# Altium footprint library Game Boy.PCBLIB: 21 footprints (part 2 of 2)
Each footprint in its own frame and in the unit in brackets; x right, y up, seen from the top. Pads: shape width x height; smd on the part's side, far side on the other; paste and mask are expansions set on the pad; w line width, h text height; cw(c..) or ccw(c..) is an arc to the next point about the centre after c.
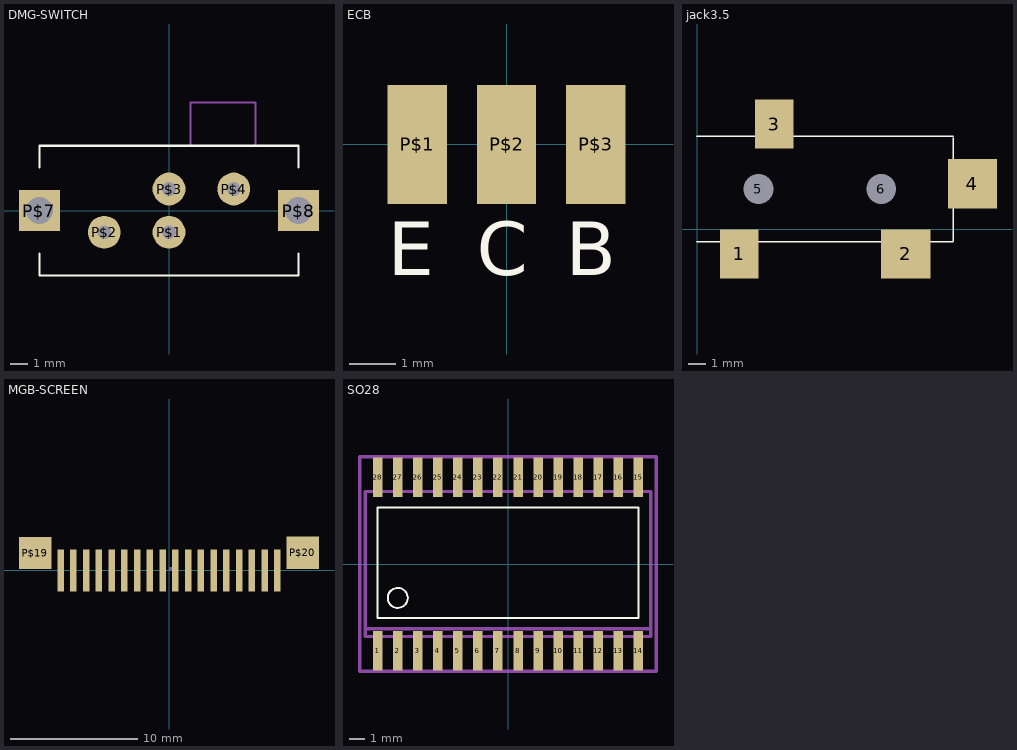
[diagram p1: the footprints below, top view; thin cyan lines are the x and y axes]

## DMG-SWITCH [mil]
pads (6):
  round 76 hole 31.5: P$1(0,-50) P$2(-150,-50) P$3(0,50) P$4(150,50)
  rect 94.48x94.48 hole 62.99: P$7(-300,0) P$8(300,0)
Top Overlay:
  lines w5: -300,-100 -300,-150 300,-150 300,-100 ; -300,100 -300,150 300,150 300,100
Mechanical 16:
  lines w5: 50,150 50,250 200,250 200,150

## ECB [mil]
pads (3):
  rect 50x100 smd: P$1(-75,0) P$2(0,0) P$3(75,0)
Top Overlay:
  text "E" at -100,-125 h77.5
  text "C" at -25,-125 h77.5
  text "B" at 50,-125 h77.5

## jack3.5 [mm]
pads (6):
  rect 2.2x2.8 smd: 1(2.4,-1.4) 3(4.4,6)
  rect 2.8x2.8 smd: 2(11.9,-1.4) 4(15.7,2.6)
  round 1 hole 1.7: 5(3.5,2.3)
  rect 1x1 hole 1.7: 6(10.5,2.3)
Top Overlay:
  lines w0.1: 0,-0.7 14.605,-0.7 ; 0,5.3 14.605,5.3 ; 14.605,-0.635 14.605,5.207

## MGB-SCREEN [mil]
pads (20):
  rect 20x130 smd: P$1(334.65,0) P$2(295.28,0) P$3(255.91,0) P$4(216.54,0) P$5(177.17,0) P$6(137.8,0) P$7(98.43,0) P$8(59.06,0) P$9(19.69,0) P$10(-19.69,0) P$11(-59.06,0) P$12(-98.43,0) P$13(-137.8,0) P$14(-177.17,0) P$15(-216.54,0) P$16(-255.91,0) P$17(-295.28,0) P$18(-334.65,0)
  rect 100x100 smd: P$19(-413.39,53.82) P$20(413.39,55)
Mechanical 16:
  region: 0,0 10,0 10,10 0,10
  region: 0,0 10,0 10,10 0,10
  text "1" at 425,-60 h42.5
  text "18" at -455,-65 h42.5

## SO28 [mil]
pads (28):
  rect 23.62x98.43 smd: 1(-325,-216.54) 2(-275,-216.54) 3(-225,-216.54) 4(-175,-216.54) 5(-125,-216.54) 6(-75,-216.54) 7(-25,-216.54) 8(25,-216.54) 9(75,-216.54) 10(125,-216.54) 11(175,-216.54) 12(225,-216.54) 13(275,-216.54) 14(325,-216.54) 15(325,216.54) 16(275,216.54) 17(225,216.54) 18(175,216.54) 19(125,216.54) 20(75,216.54) 21(25,216.54) 22(-25,216.54) 23(-75,216.54) 24(-125,216.54) 25(-175,216.54) 26(-225,216.54) 27(-275,216.54) 28(-325,216.54)
Top Overlay:
  circle w5: c-275,-84.57 r25
  lines w5: -325,-134.57 325,-134.57 325,140.43 -325,140.43 -325,-134.57
Mechanical 16:
  rectangle: -334.65,-244.88 -315.35,-185.04
  rectangle: -284.65,-244.88 -265.35,-185.04
  rectangle: -234.65,-244.88 -215.35,-185.04
  rectangle: -184.65,-244.88 -165.35,-185.04
  rectangle: -134.65,-244.88 -115.35,-185.04
  rectangle: -84.65,-244.88 -65.35,-185.04
  rectangle: -34.65,-244.88 -15.35,-185.04
  rectangle: 15.35,-244.88 34.65,-185.04
  rectangle: 65.35,-244.88 84.65,-185.04
  rectangle: 115.35,-244.88 134.65,-185.04
  rectangle: 165.35,-244.88 184.65,-185.04
  rectangle: 215.35,-244.88 234.65,-185.04
  rectangle: 265.35,-244.88 284.65,-185.04
  rectangle: 315.35,-244.88 334.65,-185.04
  rectangle: 315.35,185.04 334.65,244.88
  rectangle: 265.35,185.04 284.65,244.88
  rectangle: 215.35,185.04 234.65,244.88
  rectangle: 165.35,185.04 184.65,244.88
  rectangle: 115.35,185.04 134.65,244.88
  rectangle: 65.35,185.04 84.65,244.88
  rectangle: 15.35,185.04 34.65,244.88
  rectangle: -34.65,185.04 -15.35,244.88
  rectangle: -84.65,185.04 -65.35,244.88
  rectangle: -134.65,185.04 -115.35,244.88
  rectangle: -184.65,185.04 -165.35,244.88
  rectangle: -234.65,185.04 -215.35,244.88
  rectangle: -284.65,185.04 -265.35,244.88
  rectangle: -334.65,185.04 -315.35,244.88
  lines w8: -356.3,-161.42 -356.3,-181.1 356.3,-181.1 356.3,-161.42 ; -356.3,-161.42 -356.3,181.1 356.3,181.1 356.3,-161.42 ; -356.3,-161.42 356.3,-161.42
Mechanical 27:
  lines w7.87: -369.88,-267.72 369.88,-267.72 369.88,267.72 -369.88,267.72 -369.88,-267.72